# EAGLE library part PINHD-1X12 (library Egna komponenter)
PIN HEADER
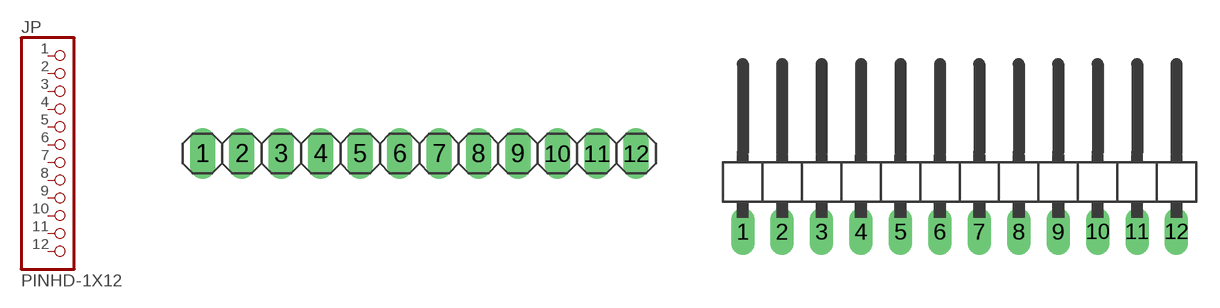
[diagram p9: symbol with the pads of 1X12_1.1MM_HOLE; footprints 1X12_1.1MM_HOLE, 1X12/90]

Designator prefix JP

## PINHD-1X12  [1X12_1.1MM_HOLE]
1  1  pas
2  2  pas
3  3  pas
4  4  pas
5  5  pas
6  6  pas
7  7  pas
8  8  pas
9  9  pas
10  10  pas
11  11  pas
12  12  pas

## PINHD-1X12/90  [1X12/90]
Pads as for 1X12_1.1MM_HOLE

## Footprint 1X12_1.1MM_HOLE (pad centres in mm)
PIN HEADER
drill 1.1 long: 1 -13.97,0; 2 -11.43,0; 3 -8.89,0; 4 -6.35,0; 5 -3.81,0; 6 -1.27,0; 7 1.27,0; 8 3.81,0; 9 6.35,0; 10 8.89,0; 11 11.43,0; 12 13.97,0

## Footprint 1X12/90 (pad centres in mm)
PIN HEADER
drill 1.016 long: 1 -13.97,-3.81; 2 -11.43,-3.81; 3 -8.89,-3.81; 4 -6.35,-3.81; 5 -3.81,-3.81; 6 -1.27,-3.81; 7 1.27,-3.81; 8 3.81,-3.81; 9 6.35,-3.81; 10 8.89,-3.81; 11 11.43,-3.81; 12 13.97,-3.81